# EAGLE library part BEAGLEBONE_P8 (library eagleParts)
Will! might have to be mirrored!
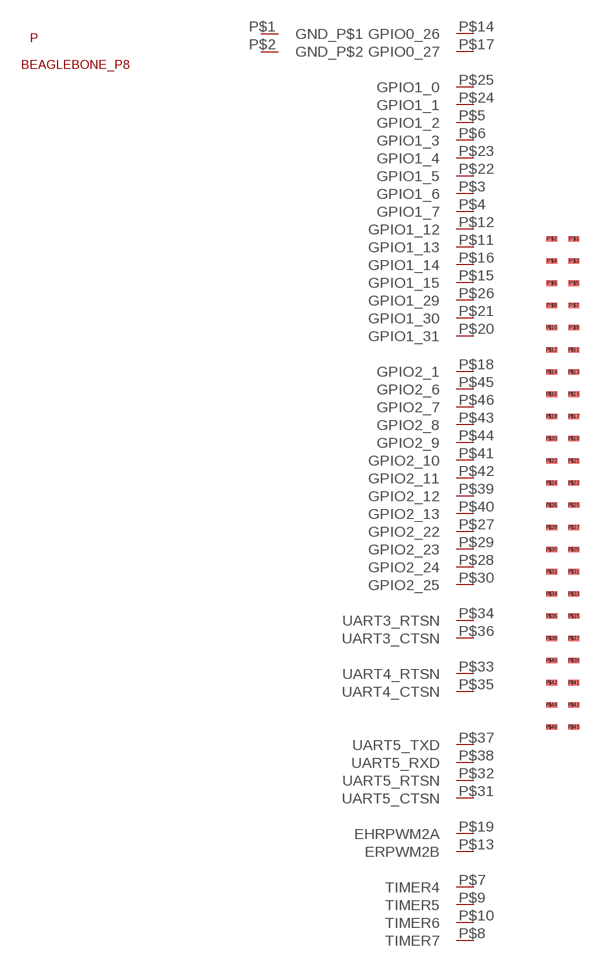
[diagram p11: symbol with the pads of BEAGLEBONE_P8; footprint BEAGLEBONE_P8]

Designator prefix P

## BEAGLEBONE_P8  [BEAGLEBONE_P8]
P$1  GND_P$1
P$2  GND_P$2
P$3  GPIO1_6
P$4  GPIO1_7
P$5  GPIO1_2
P$6  GPIO1_3
P$7  TIMER4
P$8  TIMER7
P$9  TIMER5
P$10  TIMER6
P$11  GPIO1_13
P$12  GPIO1_12
P$13  ERPWM2B
P$14  GPIO0_26
P$15  GPIO1_15
P$16  GPIO1_14
P$17  GPIO0_27
P$18  GPIO2_1
P$19  EHRPWM2A
P$20  GPIO1_31
P$21  GPIO1_30
P$22  GPIO1_5
P$23  GPIO1_4
P$24  GPIO1_1
P$25  GPIO1_0
P$26  GPIO1_29
P$27  GPIO2_22
P$28  GPIO2_24
P$29  GPIO2_23
P$30  GPIO2_25
P$31  UART5_CTSN
P$32  UART5_RTSN
P$33  UART4_RTSN
P$34  UART3_RTSN
P$35  UART4_CTSN
P$36  UART3_CTSN
P$37  UART5_TXD
P$38  UART5_RXD
P$39  GPIO2_12
P$40  GPIO2_13
P$41  GPIO2_10
P$42  GPIO2_11
P$43  GPIO2_8
P$44  GPIO2_9
P$45  GPIO2_6
P$46  GPIO2_7

## Footprint BEAGLEBONE_P8 (pad centres in mm)
SMT Header for P8 on Beaglebone
smd 1.27 x 0.635: P$1 1.27,27.94; P$2 -1.27,27.94; P$3 1.27,25.4; P$4 -1.27,25.4; P$5 1.27,22.86; P$6 -1.27,22.86; P$7 1.27,20.32; P$8 -1.27,20.32; P$9 1.27,17.78; P$10 -1.27,17.78; P$11 1.27,15.24; P$12 -1.27,15.24; P$13 1.27,12.7; P$14 -1.27,12.7; P$15 1.27,10.16; P$16 -1.27,10.16; P$17 1.27,7.62; P$18 -1.27,7.62; P$19 1.27,5.08; P$20 -1.27,5.08; P$21 1.27,2.54; P$22 -1.27,2.54; P$23 1.27,0; P$24 -1.27,0; P$25 1.27,-2.54; P$26 -1.27,-2.54; P$27 1.27,-5.08; P$28 -1.27,-5.08; P$29 1.27,-7.62; P$30 -1.27,-7.62; P$31 1.27,-10.16; P$32 -1.27,-10.16; P$33 1.27,-12.7; P$34 -1.27,-12.7; P$35 1.27,-15.24; P$36 -1.27,-15.24; P$37 1.27,-17.78; P$38 -1.27,-17.78; P$39 1.27,-20.32; P$40 -1.27,-20.32; P$41 1.27,-22.86; P$42 -1.27,-22.86; P$43 1.27,-25.4; P$44 -1.27,-25.4; P$45 1.27,-27.94; P$46 -1.27,-27.94